# Altium footprint library LCD7.0__PCB.PcbLib: 14 footprints
Each footprint in its own frame and in the unit in brackets; x right, y up, seen from the top. Pads: shape width x height; smd on the part's side, far side on the other; paste and mask are expansions set on the pad; w line width, h text height; cw(c..) or ccw(c..) is an arc to the next point about the centre after c.
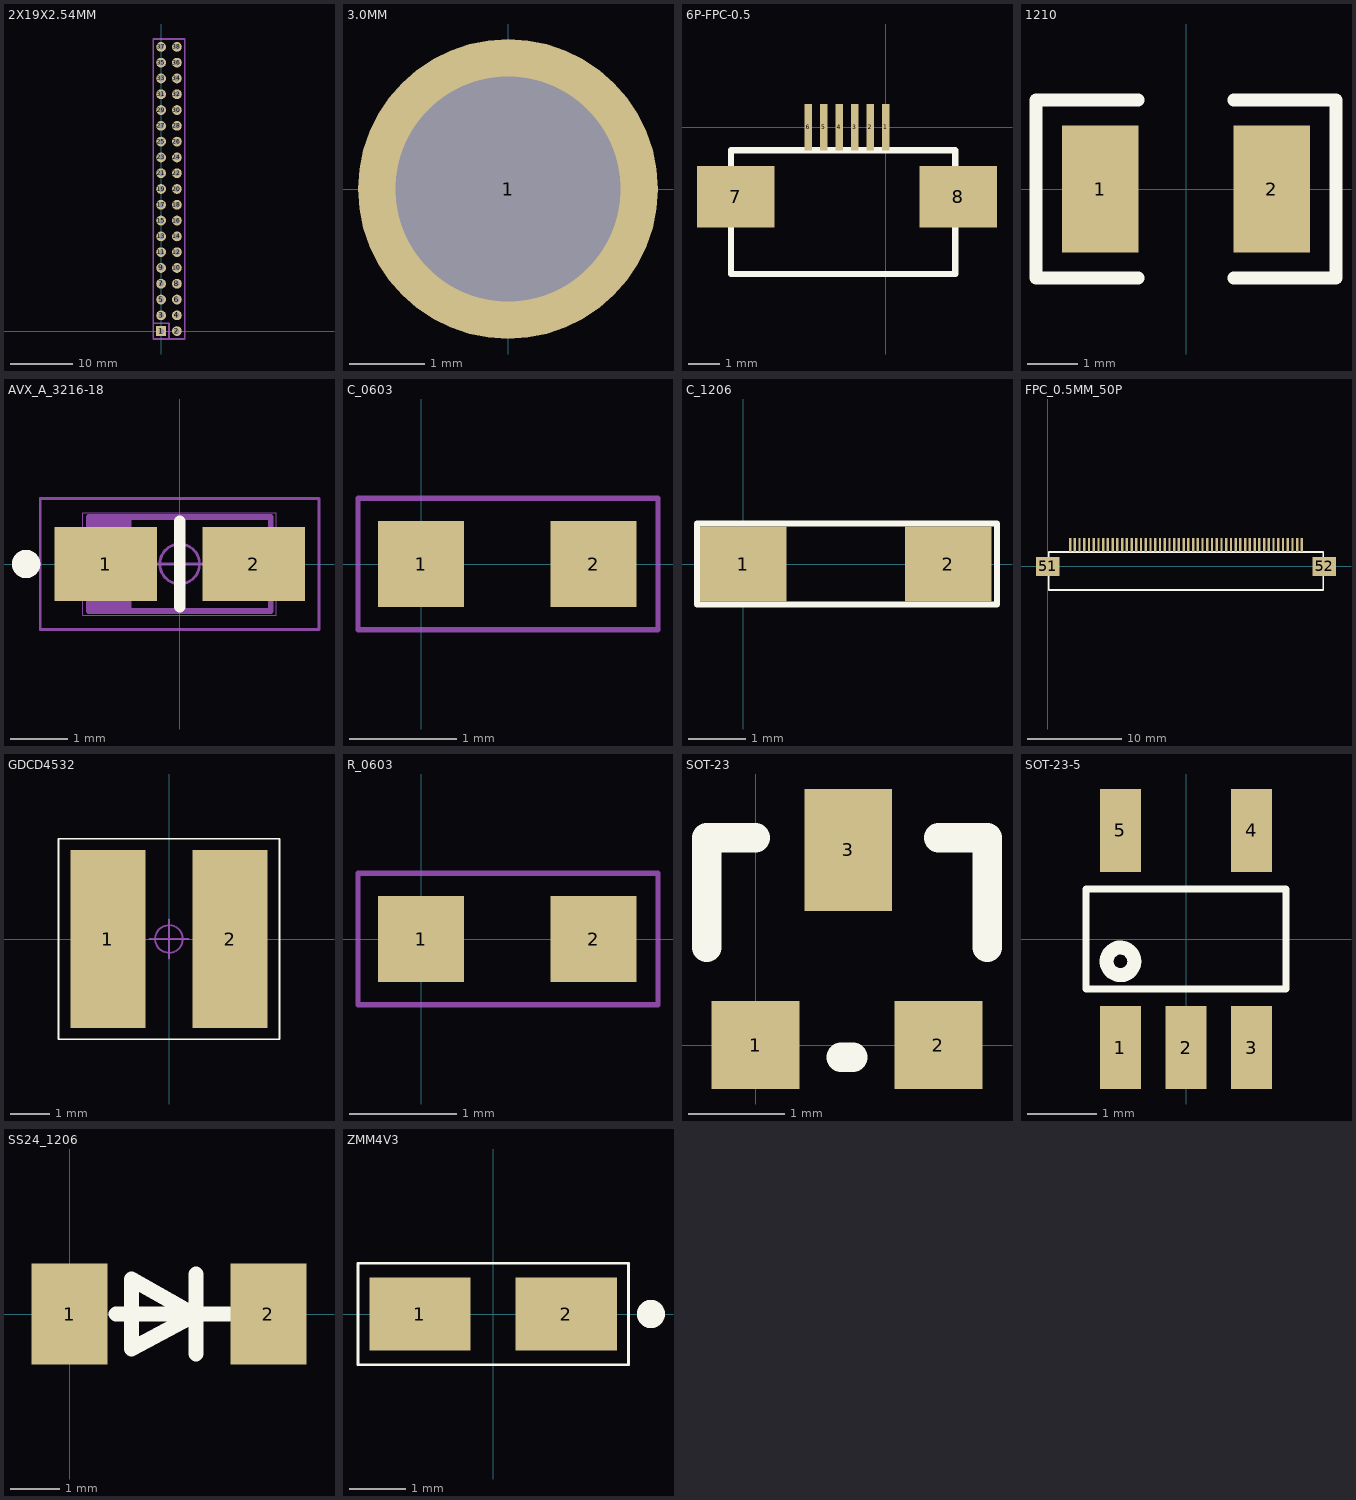
[diagram p0: the footprints below, top view; thin cyan lines are the x and y axes]

## 2X19X2.54MM [mil]
pads (38):
  rrect0% 62x62 hole 35.43: 1(0,0)
  round 62 hole 35.43: 2(100,0) 3(0,100) 4(100,100) 5(0,200) 6(100,200) 7(0,300) 8(100,300) 9(0,400) 10(100,400) 11(0,500) 12(100,500) 13(0,600) 14(100,600) 15(0,700) 16(100,700) 17(0,800) 18(100,800) 19(0,900) 20(100,900) 21(0,1000) 22(100,1000) 23(0,1100) 24(100,1100) 25(0,1200) 26(100,1200) 27(0,1300) 28(100,1300) 29(0,1400) 30(100,1400) 31(0,1500) 32(100,1500) 33(0,1600) 34(100,1600) 35(0,1700) 36(100,1700) 37(0,1800) 38(100,1800)
Mechanical 1:
  lines w12: -50,50 50,50 50,-50 ; -50,-50 150,-50 150,1850 -50,1850 -50,-50

## 3.0MM [mm]
pads (1):
  round 4 hole 3: 1(0,0)

## 6P-FPC-0.5 [mm]
height 5.3
pads (8):
  rect 0.25x1.5 smd: 1(0,0) 2(-0.5,0) 3(-1,0) 4(-1.5,0) 5(-2,0) 6(-2.5,0)
  rect 2.5x2 smd: 7(-4.85,-2.25) 8(2.35,-2.25)
Top Overlay:
  lines w0.2: -5,-4.75 2.25,-4.75 2.25,-0.75 -5,-0.75 -5,-4.75

## 1210 [mil]
pads (2):
  rect 60x100 smd: 1(-67.5,0) 2(67.5,0)
Top Overlay:
  lines w10: -37.5,-70 -118,-70 -118,70 -37.5,70 ; 37.5,-70 118,-70 118,70 37.5,70

## AVX_A_3216-18 [mm]
height 1.6
pads (2):
  rect 1.8x1.3 smd: 1(-1.3,0) 2(1.3,0)
Top Overlay:
  circle w0.25: c-2.7,0 r0.125
  lines w0.2: 0,-0.75 0,0.75
Mechanical 1:
  lines w0.1: -1.5,-0.825 -1.5,0.825 ; -1.4,-0.825 -1.4,0.825 ; -1.3,-0.825 -1.3,0.825 ; -1.2,-0.825 -1.2,0.825 ; -1.1,-0.825 -1.1,0.825 ; -1,-0.825 -1,0.825 ; -0.9,-0.825 -0.9,0.825 ; -1.6,-0.825 1.6,-0.825 1.6,0.825 -1.6,0.825 -1.6,-0.825
Mechanical 16:
  circle w0.05: c0,0 r0.35
  lines w0.001: -1.7,-0.9 1.7,-0.9 1.7,0.9 -1.7,0.9 -1.7,-0.9
  lines w0.05: -0.5,0 0.5,0 ; 0,-0.5 0,0.5 ; -2.45,-1.15 2.45,-1.15 2.45,1.15 -2.45,1.15 -2.45,-1.15

## C_0603 [mm]
pads (2):
  rect 0.8x0.8 smd: 1(0,0) 2(1.6,0)
Mechanical 1:
  lines w0.051: -0.584,-0.61 2.197,-0.61 2.197,0.61 -0.584,0.61 -0.584,-0.61

## C_1206 [mm]
pads (2):
  rect 1.5x1.3 smd: 1(0,0) 2(3.556,0)
Top Overlay:
  lines w0.1: -0.8,-0.7 -0.8,0.7 4.4,0.7 4.4,-0.7 -0.8,-0.7

## FPC_0.5MM_50P [mm]
pads (52):
  rect 0.25x1.5 smd: 1(26.85,2.25) 2(26.35,2.25) 3(25.85,2.25) 4(25.35,2.25) 5(24.85,2.25) 6(24.35,2.25) 7(23.85,2.25) 8(23.35,2.25) 9(22.85,2.25) 10(22.35,2.25) 11(21.85,2.25) 12(21.35,2.25) 13(20.85,2.25) 14(20.35,2.25) 15(19.85,2.25) 16(19.35,2.25) 17(18.85,2.25) 18(18.35,2.25) 19(17.85,2.25) 20(17.35,2.25) 21(16.85,2.25) 22(16.35,2.25) 23(15.85,2.25) 24(15.35,2.25) 25(14.85,2.25) 26(14.35,2.25) 27(13.85,2.25) 28(13.35,2.25) 29(12.85,2.25) 30(12.35,2.25) 31(11.85,2.25) 32(11.35,2.25) 33(10.85,2.25) 34(10.35,2.25) 35(9.85,2.25) 36(9.35,2.25) 37(8.85,2.25) 38(8.35,2.25) 39(7.85,2.25) 40(7.35,2.25) 41(6.85,2.25) 42(6.35,2.25) 43(5.85,2.25) 44(5.35,2.25) 45(4.85,2.25) 46(4.35,2.25) 47(3.85,2.25) 48(3.35,2.25) 49(2.85,2.25) 50(2.35,2.25)
  rect 2.5x2 smd: 51(0,0) 52(29.2,0)
Top Overlay:
  lines w0.2: 0.1,-2.5 29.1,-2.5 29.1,1.5 0.1,1.5 0.1,-2.5

## GDCD4532 [mm]
height 5.3
pads (2):
  rect 1.9x4.5 smd: 1(-1.55,0) 2(1.55,0)
Top Overlay:
  lines w0.05: -2.794,-2.54 2.794,-2.54 2.794,2.54 -2.794,2.54 -2.794,-2.54
Mechanical 16:
  circle w0.05: c0,0 r0.35
  lines w0.05: -0.5,0 0.5,0 ; 0,-0.5 0,0.5

## R_0603 [mm]
pads (2):
  rect 0.8x0.8 smd: 1(0,0) 2(1.6,0)
Mechanical 1:
  lines w0.051: -0.584,-0.61 2.197,-0.61 2.197,0.61 -0.584,0.61 -0.584,-0.61

## SOT-23 [mil]
pads (3):
  rect 36x36 smd: 1(0,0) 2(75,0)
  rect 36x50 smd: 3(38,80)
Top Overlay:
  lines w12: -20,40 -20,85 0,85 ; 35,-5 40,-5 ; 75,85 95,85 95,40

## SOT-23-5 [mm]
pads (5):
  rect 0.6x1.2 smd: 1(-0.95,-1.575) 2(0,-1.575) 3(0.95,-1.575) 4(0.95,1.575) 5(-0.95,1.575)
Top Overlay:
  circle w0.203: c-0.95,-0.325 r0.2
  lines w0.102: -1.45,-0.725 1.45,-0.725 1.45,0.475 1.45,0.725 -1.45,0.725 -1.45,0.475 -1.45,-0.725

## SS24_1206 [mil]
pads (2):
  rect 60x80 smd: 1(0,0) 2(157.48,0)
Top Overlay:
  lines w12: 36.92,-0.13 125.98,-0.13 ; 100.17,-31.5 100.17,31.5 ; 49.17,-27.56 100.17,-0.13 100.17,-1.13 49.17,27.56 49.17,-27.56

## ZMM4V3 [mm]
height 1.6
pads (2):
  rect 1.8x1.3 smd: 1(-1.3,0) 2(1.3,0)
Top Overlay:
  circle w0.25: c2.8,0 r0.125
  lines w0.05: -2.4,-0.9 2.4,-0.9 2.4,0.9 -2.4,0.9 -2.4,-0.9